# EAGLE library part FDG6301N (library ruark2)
Mosfet Array 2 N-Channel (Dual) 25V 220mA 300mW Surface Mount SC-88 (SC-70-6)
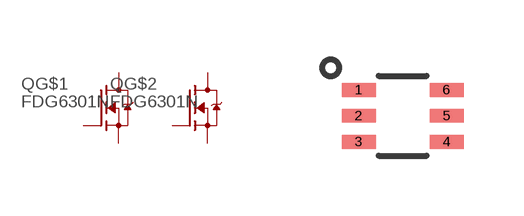
[diagram p147: symbol with the pads of SC-70; footprint SC-70]

Designator prefix Q; gates G$1=MOSFET G$2=MOSFET

## FDG6301N (PARTNO: FDG6301NCT-ND)  [SC-70]
1  G$1:S  pas
2  G$1:G  pas
3  G$2:D  pas
4  G$2:S  pas
5  G$2:G  pas
6  G$1:D  pas

## Footprint SC-70 (pad centres in mm)
smd 0.85 x 0.35: 1 -1.1,0.65; 2 -1.1,0; 3 -1.1,-0.65; 4 1.1,-0.65; 5 1.1,0; 6 1.1,0.65